# EAGLE library part 74*2T45 (library FPV-Auto)
SN74LVC2T45 ual-Bit Dual-Supply Bus Transceiver With Configurable Voltage Translation Links Datasheet <http://www.ti.com/lit/gpn/sn74lvc2t45> Product website <http://www.ti.com/product/SN74LVC2T45>
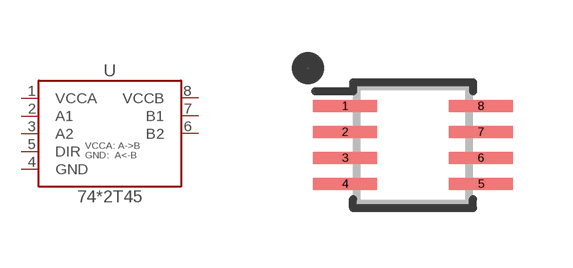
[diagram p6: symbol with the pads of DCT(R-PDSO-G8); footprint DCT(R-PDSO-G8)]

Designator prefix U

## 74LVC2T45DCT  [DCT(R-PDSO-G8)]
1  VCCA  pwr
2  A1
3  A2
4  GND  pwr
5  DIR  in
6  B2
7  B1
8  VCCB  pwr

## Footprint DCT(R-PDSO-G8) (pad centres in mm)
smd 1.6 x 0.3: 1 -1.7,0.975; 2 -1.7,0.325; 3 -1.7,-0.325; 4 -1.7,-0.975; 5 1.7,-0.975; 6 1.7,-0.325; 7 1.7,0.325; 8 1.7,0.975